# EAGLE library part DCO-V1.4 (library XM8)
Xonik DCO v1.4
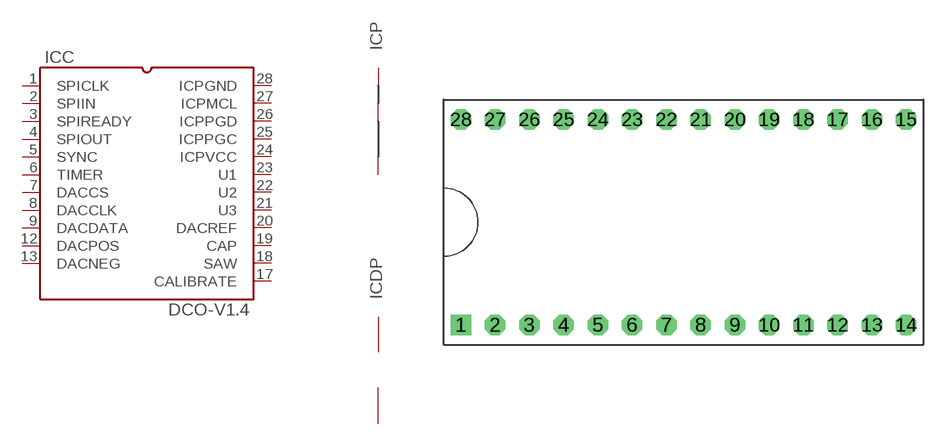
[diagram p0: symbol with the pads of XM8-DCO-V1.4; footprint XM8-DCO-V1.4]

Designator prefix IC; gates C=XM8-DCO-V1.4 P=XM8-PWR DP=XM8-DIG-PWR

## DCO-V1.4  [XM8-DCO-V1.4]
1  C:SPICLK
2  C:SPIIN
3  C:SPIREADY
4  C:SPIOUT  out
5  C:SYNC  in
6  C:TIMER  out
7  C:DACCS
8  C:DACCLK
9  C:DACDATA
10  DP:DGND  pwr
11  DP:+5V  pwr
12  C:DACPOS  out
13  C:DACNEG  out
14  P:+V  pwr
15  P:-V  pwr
16  P:AGND  pwr
17  C:CALIBRATE  in
18  C:SAW  out
19  C:CAP
20  C:DACREF  in
21  C:U3
22  C:U2
23  C:U1
24  C:ICPVCC
25  C:ICPPGC
26  C:ICPPGD
27  C:ICPMCL
28  C:ICPGND

## Footprint XM8-DCO-V1.4 (pad centres in mm)
Xonik DCO v1.4, DIL28 wide
drill 1.016 square: 1 -16.51,-7.62
drill 1.016 octagon: 2 -13.97,-7.62; 3 -11.43,-7.62; 4 -8.89,-7.62; 5 -6.35,-7.62; 6 -3.81,-7.62; 7 -1.27,-7.62; 8 1.27,-7.62; 9 3.81,-7.62; 10 6.35,-7.62; 11 8.89,-7.62; 12 11.43,-7.62; 13 13.97,-7.62; 14 16.51,-7.62; 15 16.51,7.62; 16 13.97,7.62; 17 11.43,7.62; 18 8.89,7.62; 19 6.35,7.62; 20 3.81,7.62; 21 1.27,7.62; 22 -1.27,7.62; 23 -3.81,7.62; 24 -6.35,7.62; 25 -8.89,7.62; 26 -11.43,7.62; 27 -13.97,7.62; 28 -16.51,7.62